# EAGLE library part USB3300-EZK (library ts_kb_mcu)
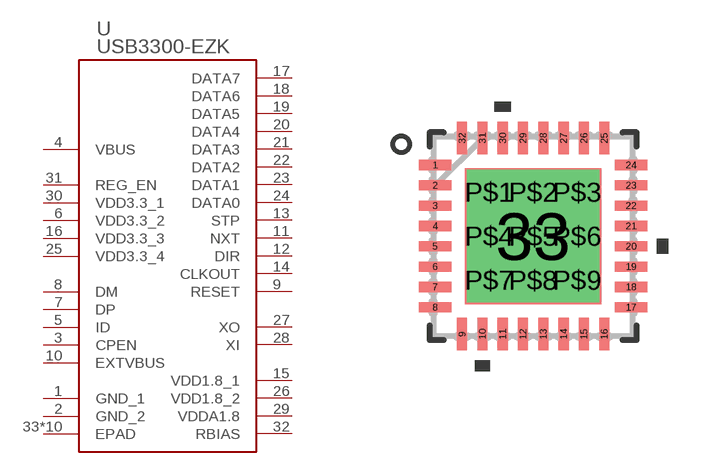
[diagram p7: symbol with the pads of QFN32_5X5MC_MCH; footprint QFN32_5X5MC_MCH]

Designator prefix U

## USB3300-EZK (COPYRIGHT: Copyright (C) 2023 Ultra Librarian. All rights reserved.; MANUFACTURER_PART_NUMBER: USB3300-EZK; MFR_NAME: Microchip)  [QFN32_5X5MC_MCH]
1  GND_1  pwr
2  GND_2  pwr
3  CPEN  out
4  VBUS
5  ID  in
6  VDD3.3_2  pwr
7  DP
8  DM
9  RESET  in
10  EXTVBUS  in
11  NXT  out
12  DIR  out
13  STP  in
14  CLKOUT  out
15  VDD1.8_1  pwr
16  VDD3.3_3  pwr
17  DATA7
18  DATA6
19  DATA5
20  DATA4
21  DATA3
22  DATA2
23  DATA1
24  DATA0
25  VDD3.3_4  pwr
26  VDD1.8_2  pwr
27  XO  out
28  XI  in
29  VDDA1.8  pwr
30  VDD3.3_1  pwr
31  REG_EN
32  RBIAS  pas
33  EPAD  pas
P$1  EPAD  pas
P$2  EPAD  pas
P$3  EPAD  pas
P$4  EPAD  pas
P$5  EPAD  pas
P$6  EPAD  pas
P$7  EPAD  pas
P$8  EPAD  pas
P$9  EPAD  pas

## Footprint QFN32_5X5MC_MCH (pad centres in mm)
smd 0.813 x 0.254: 1 -2.451,1.778; 2 -2.451,1.27; 3 -2.451,0.762; 4 -2.451,0.254; 5 -2.451,-0.254; 6 -2.451,-0.762; 7 -2.451,-1.27; 8 -2.451,-1.778; 17 2.451,-1.778; 18 2.451,-1.27; 19 2.451,-0.762; 20 2.451,-0.254; 21 2.451,0.254; 22 2.451,0.762; 23 2.451,1.27; 24 2.451,1.778
smd 0.254 x 0.813: 9 -1.778,-2.451; 10 -1.27,-2.451; 11 -0.762,-2.451; 12 -0.254,-2.451; 13 0.254,-2.451; 14 0.762,-2.451; 15 1.27,-2.451; 16 1.778,-2.451; 25 1.778,2.451; 26 1.27,2.451; 27 0.762,2.451; 28 0.254,2.451; 29 -0.254,2.451; 30 -0.762,2.451; 31 -1.27,2.451; 32 -1.778,2.451
smd 3.404 x 3.404: 33 0,0
drill 0.6 square: P$1 -1.1,1.1; P$2 0,1.1; P$3 1.1,1.1; P$4 -1.1,0; P$5 0,0; P$6 1.1,0; P$7 -1.1,-1.1; P$8 0,-1.1; P$9 1.1,-1.1